# Altium integrated library USBULC6-2F3.IntLib: 2 symbols
Pins are listed as number, name and electrical type; pins without a type are passive.

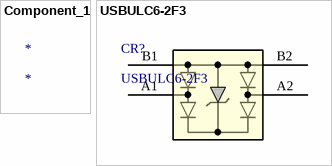
[diagram p0: symbols Component_1 to USBULC6-2F3]

## Component_1
designator *

## USBULC6-2F3
designator CR?
No Description Available; Manufacturer_Name: STMicroelectronics; Copyright: Copyright (C) 2025 Ultra Librarian. All rights reserved.; Manufacturer_Part_Number: USBULC6-2F3; RefDes: RefDes; Type: Type
footprint FLIPCHIP4_USBUL_STM
pins: A1, A2, B1, B2